# EAGLE library part OPAMP-ST-LMV324IPT (library Pygmy)
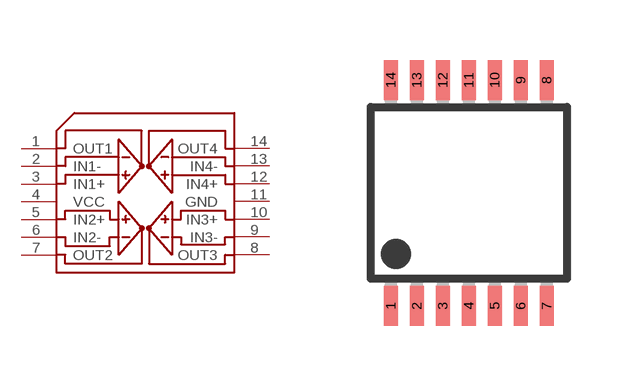
[diagram p50: symbol with the pads of TSSOP14; footprint TSSOP14]

Designator prefix -

## OPAMP-ST-LMV324IPT  [TSSOP14]
1  OUT1
2  IN1-
3  IN1+
4  VCC
5  IN2+
6  IN2-
7  OUT2
8  OUT3
9  IN3-
10  IN3+
11  GND
12  IN4+
13  IN4-
14  OUT4

## Footprint TSSOP14 (pad centres in mm)
14-Lead Plastic Thin Shrink Small Outline (ST) - 4.4 mm Body TSSOP Source: http://ww1.microchip.com/downloads/en/DeviceDoc/40039E.pdf
smd 0.35 x 1: 1 -1.95,-2.825; 2 -1.3,-2.825; 3 -0.65,-2.825; 4 0,-2.825; 5 0.65,-2.825; 6 1.3,-2.825; 7 1.95,-2.825; 8 1.95,2.825; 9 1.3,2.825; 10 0.65,2.825; 11 0,2.825; 12 -0.65,2.825; 13 -1.3,2.825; 14 -1.95,2.825